# Altium schematic symbol library K1.1.SchLib: 1 symbol
Pins are listed as number, name and electrical type; pins without a type are passive.

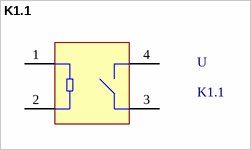
[diagram p0: symbol K1.1]

## K1.1
designator U
pins: 1 (power), 2 (power), 3 (power), 4 (power)